# EAGLE library part D25S24A4GV00LF (library D-Sub Connectors)
CONN D-SUB RCPT 25POS VERT SLDR Manufacturer's datasheet <https://www.amphenol-icc.com/media/wysiwyg/files/drawing/c01-8646-0815.pdf>
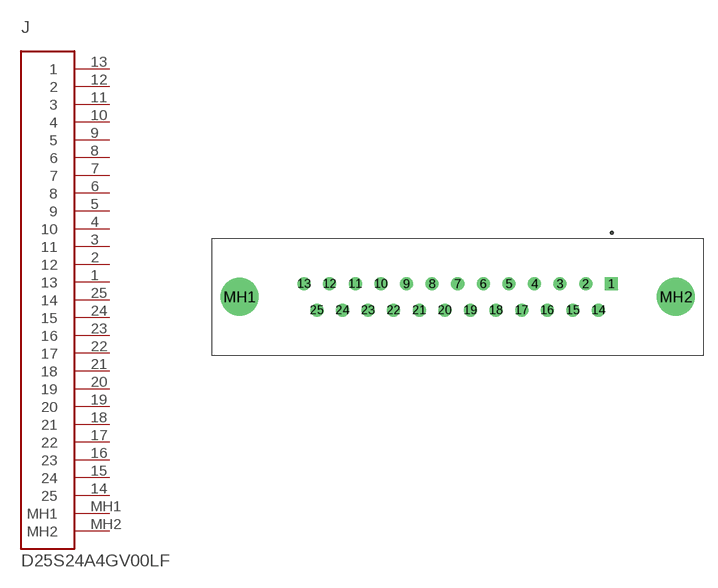
[diagram p19: symbol with the pads of D25S24A4GV00LF; footprint D25S24A4GV00LF]

Designator prefix J

## D25S24A4GV00LF (CREATED_BY: PCBLayout.com; DIGIKEY_PART_NUMBER: 609-1509-ND; MANUFACTURER: Amphenol ICC (FCI); MPN: D25S24A4GV00LF)  [D25S24A4GV00LF]
1  13  pas
2  12  pas
3  11  pas
4  10  pas
5  9  pas
6  8  pas
7  7  pas
8  6  pas
9  5  pas
10  4  pas
11  3  pas
12  2  pas
13  1  pas
14  25  pas
15  24  pas
16  23  pas
17  22  pas
18  21  pas
19  20  pas
20  19  pas
21  18  pas
22  17  pas
23  16  pas
24  15  pas
25  14  pas
MH1  MH1  pas
MH2  MH2  pas

## Footprint D25S24A4GV00LF (pad centres in mm)
drill 0.9 square: 1 16.56,1.42
drill 0.9: 2 13.8,1.42; 3 11.04,1.42; 4 8.28,1.42; 5 5.52,1.42; 6 2.76,1.42; 7 0,1.42; 8 -2.76,1.42; 9 -5.52,1.42; 10 -8.28,1.42; 11 -11.04,1.42; 12 -13.8,1.42; 13 -16.56,1.42; 14 15.18,-1.42; 15 12.42,-1.42; 16 9.66,-1.42; 17 6.9,-1.42; 18 4.14,-1.42; 19 1.38,-1.42; 20 -1.38,-1.42; 21 -4.14,-1.42; 22 -6.9,-1.42; 23 -9.66,-1.42; 24 -12.42,-1.42; 25 -15.18,-1.42
drill 3.1: MH1 -23.52,0; MH2 23.52,0